# Altium footprint library Packages.PcbLib: 10 footprints
Each footprint in its own frame and in the unit in brackets; x right, y up, seen from the top. Pads: shape width x height; smd on the part's side, far side on the other; paste and mask are expansions set on the pad; w line width, h text height; cw(c..) or ccw(c..) is an arc to the next point about the centre after c.
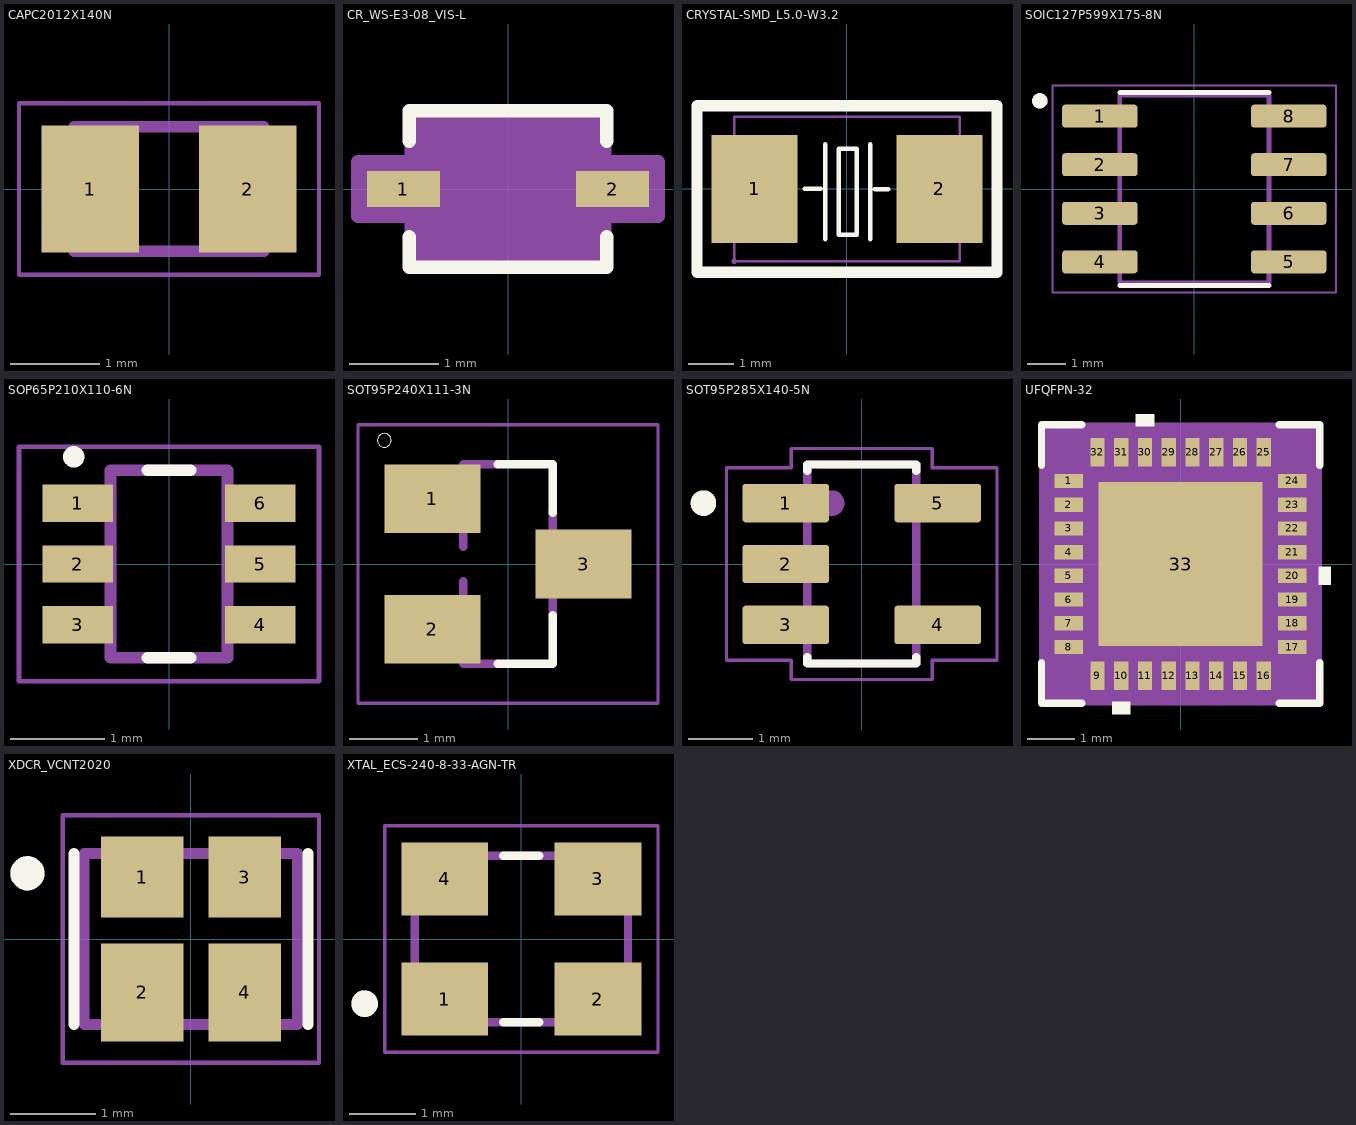
[diagram p0: the footprints below, top view; thin cyan lines are the x and y axes]

## CAPC2012X140N [mm]
pads (2):
  rect 1.1x1.43 smd: 1(-0.888,0) 2(0.888,0)
Mechanical 13:
  lines w0.127: -1.07,-0.7 -1.07,0.7 1.07,0.7 1.07,-0.7 -1.07,-0.7
Mechanical 15:
  lines w0.05: -1.69,-0.965 -1.69,0.965 1.69,0.965 1.69,-0.965 -1.69,-0.965
3D body "step_temp.STEP": height 1.4, standoff 0, extent -1,-0.625 1,0.625

## CR_WS-E3-08_VIS-L [mil]
pads (2):
  rect 32x16 smd paste+0 mask+0: 1(-46,0) 2(46,0)
Top Overlay:
  lines w6: -43.5,-21.1 -43.5,-34.5 43.5,-34.5 43.5,-21.1 ; -43.5,21.1 -43.5,34.5 43.5,34.5 43.5,21.1
  text "." at -70,20 h50
Mechanical 13:
  lines w1: -38.5,-14.75 -23.75,-29.5 ; -38.5,14.75 -23.75,29.5 ; -56,-8 -38.5,-8 -38.5,8 -56,8 -56,-8 ; -38.5,-29.5 -38.5,29.5 38.5,29.5 38.5,-29.5 -38.5,-29.5 ; 38.5,-8 56,-8 56,8 38.5,8 38.5,-8
Mechanical 15:
  region: -42.5,-12 -66,-12 -66,12 -42.5,12 -42.5,33.5 42.5,33.5 42.5,12 66,12 66,-12 42.5,-12 42.5,-33.5 -42.5,-33.5
  lines w6: -66,-12 -42.5,-12 -42.5,-33.5 42.5,-33.5 42.5,-12 66,-12 66,12 42.5,12 42.5,33.5 -42.5,33.5 -42.5,12 -66,12 -66,-12
3D body "CR_WS-E3-08_VIS.step": height 45.12, standoff 0, extent -55.98,-29.49 55.98,29.49

## CRYSTAL-SMD_L5.0-W3.2 [mm]
pads (2):
  rect 1.9x2.4 smd: 1(-2.05,0) 2(2.05,0)
Top Overlay:
  lines w0.1: -0.94,0 -0.584,0 ; -0.483,-1.109 -0.483,0.991 ; 0.517,-1.109 0.517,0.991 ; 0.617,-0.009 0.917,-0.009 ; -0.183,-1.009 0.217,-1.009 0.217,0.89 -0.183,0.89 -0.183,-1.009
  lines w0.254: -3.325,-1.85 -3.325,-0.7 -3.325,0.7 -3.325,1.85 3.325,1.85 3.325,0.7 3.325,-0.7 3.325,-1.85 -3.325,-1.85
Mechanical 15:
  region: 1.3,1 2.4,1 2.4,-1 1.3,-1
  region: -2.4,1 -1.3,1 -1.3,-1 -2.4,-1
  region: -2.44,-1.6 -2.44,-1.625 -2.475,-1.66 -2.525,-1.66 -2.56,-1.625 -2.56,-1.6 -2.56,-1.575 -2.525,-1.54 -2.475,-1.54 -2.44,-1.575
  lines w0.051: -2.5,-1.6 2.5,-1.6 2.5,1.6 -2.5,1.6 -2.5,-1.6
3D body "5032_crystal_oscillator.step": height 0.8, standoff 0, extent -2.5,-1.6 2.5,1.6

## SOIC127P599X175-8N [mm]
pads (8):
  rrect25% 1.97x0.6 smd: 1(-2.47,1.905) 2(-2.47,0.635) 3(-2.47,-0.635) 4(-2.47,-1.905) 5(2.47,-1.905) 6(2.47,-0.635) 7(2.47,0.635) 8(2.47,1.905)
Top Overlay:
  circle w0.2: c-4.04,2.305 r0.1
  lines w0.127: -1.95,-2.525 1.95,-2.525 ; -1.95,2.525 1.95,2.525
Mechanical 13:
  circle w0.2: c-4.04,2.305 r0.1
  lines w0.127: -1.95,-2.452 -1.95,2.452 1.95,2.452 1.95,-2.452 -1.95,-2.452
Mechanical 15:
  lines w0.05: -3.705,-2.702 -3.705,2.702 3.705,2.702 3.705,-2.702 -3.705,-2.702
3D body "step_temp.STEP": height 1.75, standoff 0, extent -3,-2.45 3,2.45

## SOP65P210X110-6N [mm]
pads (6):
  rect 0.75x0.4 smd paste-0.05 mask+0.05: 1(-0.975,0.65) 2(-0.975,0) 3(-0.975,-0.65) 4(0.975,-0.65) 5(0.975,0) 6(0.975,0.65)
Top Overlay:
  circle w0.127: c-1.016,1.143 r0.051
  lines w0.127: -0.23,-1 0.23,-1 ; -0.23,1 0.23,1
Mechanical 13:
  lines w0.127: -0.625,-1 -0.625,1 0.625,1 0.625,-1 -0.625,-1
Mechanical 15:
  lines w0.05: -1.6,-1.25 -1.6,1.25 1.6,1.25 1.6,-1.25 -1.6,-1.25
3D body "step_temp.STEP": height 1.1, standoff 0, extent -1.05,-1 1.05,1

## SOT95P240X111-3N [mm]
pads (3):
  rect 1.4x1 smd: 1(-1.1,0.95) 2(-1.1,-0.95) 3(1.1,0)
Top Overlay:
  circle w0: c-1.8,1.8 r0.1
  lines w0.127: -0.15,-1.45 0.65,-1.45 0.65,-0.75 ; -0.15,1.45 0.65,1.45 0.65,0.75
Mechanical 13:
  region: -0.713,0.711 -1.296,0.711 -1.296,1.17 -0.713,1.17
  region: -0.711,-1.169 -1.296,-1.169 -1.296,-0.711 -0.711,-0.711
  region: 1.296,-0.228 0.711,-0.228 0.711,0.228 1.296,0.228
  lines w0.127: -0.65,-0.25 -0.65,-1.45 -0.15,-1.45 ; -0.65,0.25 -0.65,1.45 -0.15,1.45 ; 0.65,-0.75 0.65,0.75
Mechanical 15:
  lines w0.051: -2.183,-2.023 2.183,-2.023 2.183,2.023 -2.183,2.023 -2.183,-2.023
3D body "step_temp.STEP": height 1.11, standoff 0, extent -1.2,-1.45 1.2,1.45

## SOT95P285X140-5N [mm]
pads (5):
  rrect15% 1.35x0.6 smd: 1(-1.185,0.95) 2(-1.185,0) 3(-1.185,-0.95) 4(1.185,-0.95) 5(1.185,0.95)
Top Overlay:
  circle w0.2: c-2.469,0.95 r0.1
  lines w0.127: -0.85,-1.45 -0.85,-1.55 0.85,-1.55 0.85,-1.45 ; -0.85,1.45 -0.85,1.55 0.85,1.55 0.85,1.45
Mechanical 13:
  circle w0.2: c-0.469,0.95 r0.1
  lines w0.127: -0.85,-1.55 0.85,-1.55 0.85,1.55 -0.85,1.55 -0.85,-1.55
Mechanical 15:
  lines w0.05: -2.11,-1.5 -2.11,1.5 -1.1,1.5 -1.1,1.8 1.1,1.8 1.1,1.5 2.11,1.5 2.11,-1.5 1.1,-1.5 1.1,-1.8 -1.1,-1.8 -1.1,-1.5 -2.11,-1.5
3D body "step_temp.STEP": height 1.4, standoff 0, extent -1.5,-1.4 1.5,1.4

## UFQFPN-32 [mm]
pads (33):
  rect 0.6x0.3 smd paste+0 mask+0: 1(-2.35,1.75) 2(-2.35,1.25) 3(-2.35,0.75) 4(-2.35,0.25) 5(-2.35,-0.25) 6(-2.35,-0.75) 7(-2.35,-1.25) 8(-2.35,-1.75) 17(2.35,-1.75) 18(2.35,-1.25) 19(2.35,-0.75) 20(2.35,-0.25) 21(2.35,0.25) 22(2.35,0.75) 23(2.35,1.25) 24(2.35,1.75)
  rect 0.3x0.6 smd paste+0 mask+0: 9(-1.75,-2.35) 10(-1.25,-2.35) 11(-0.75,-2.35) 12(-0.25,-2.35) 13(0.25,-2.35) 14(0.75,-2.35) 15(1.25,-2.35) 16(1.75,-2.35) 25(1.75,2.35) 26(1.25,2.35) 27(0.75,2.35) 28(0.25,2.35) 29(-0.25,2.35) 30(-0.75,2.35) 31(-1.25,2.35) 32(-1.75,2.35)
  rect 3.454x3.454 smd paste-1.727 mask+0: 33(0,0)
Top Overlay:
  region: -1.06,-2.904 -1.441,-2.904 -1.441,-3.158 -1.06,-3.158
  region: 2.904,-0.059 3.158,-0.059 3.158,-0.44 2.904,-0.44
  region: -0.56,2.904 -0.941,2.904 -0.941,3.158 -0.56,3.158
  lines w0.152: -2.931,-2.078 -2.931,-2.931 -2.078,-2.931 ; -2.931,2.078 -2.931,2.931 -2.078,2.931 ; 2.078,-2.931 2.931,-2.931 2.931,-2.078 ; 2.078,2.931 2.931,2.931 2.931,2.078
  text "." at -3.556,1.651 h1.27
Top Paste:
  region: -0.1,1.627 -1.627,1.627 -1.627,0.1 -0.1,0.1
  region: -0.1,-0.1 -1.627,-0.1 -1.627,-1.627 -0.1,-1.627
  region: 1.627,1.627 0.1,1.627 0.1,0.1 1.627,0.1
  region: 1.627,-0.1 0.1,-0.1 0.1,-1.627 1.627,-1.627
Mechanical 13:
  lines w0.025: -2.55,1.28 -1.28,2.55 ; -2.55,-2.55 2.55,-2.55 2.55,2.55 -2.55,2.55 -2.55,-2.55
  text "*" at -2.114,1.365 h1.27
Mechanical 15:
  region: -2.154,-2.804 -2.804,-2.804 -2.804,-2.154 -2.904,-2.154 -2.904,2.154 -2.804,2.154 -2.804,2.804 -2.154,2.804 -2.154,2.904 2.154,2.904 2.154,2.804 2.804,2.804 2.804,2.154 2.904,2.154 2.904,-2.154 2.804,-2.154 2.804,-2.804 2.154,-2.804 2.154,-2.904 -2.154,-2.904
  lines w0.152: -2.904,-2.154 -2.804,-2.154 -2.804,-2.804 -2.154,-2.804 -2.154,-2.904 2.154,-2.904 2.154,-2.804 2.804,-2.804 2.804,-2.154 2.904,-2.154 2.904,2.154 2.804,2.154 2.804,2.804 2.154,2.804 2.154,2.904 -2.154,2.904 -2.154,2.804 -2.804,2.804 -2.804,2.154 -2.904,2.154 -2.904,-2.154
3D body "UFQFPN-32.step": height 1.4, standoff 0, extent -2.601,-2.601 2.601,2.601

## XDCR_VCNT2020 [mm]
pads (4):
  rect 0.97x0.95 smd: 1(-0.57,0.725)
  rect 0.97x1.15 smd: 2(-0.57,-0.625)
  rect 0.85x0.95 smd: 3(0.63,0.725)
  rect 0.85x1.15 smd: 4(0.63,-0.625)
Top Overlay:
  circle w0.2: c-1.914,0.77 r0.1
  lines w0.127: -1.37,-1 -1.37,1 ; 1.37,-1 1.37,1
Mechanical 13:
  circle w0.2: c-1.914,0.77 r0.1
  lines w0.127: -1.25,-1 1.25,-1 1.25,1 -1.25,1 -1.25,-1
Mechanical 15:
  lines w0.05: -1.5,-1.45 1.5,-1.45 1.5,1.45 -1.5,1.45 -1.5,-1.45
3D body "step_temp.STEP": height 0.8, standoff 0, extent -1.25,-1 1.25,1

## XTAL_ECS-240-8-33-AGN-TR [mm]
pads (4):
  rect 1.3x1.1 smd: 1(-1.15,-0.9) 2(1.15,-0.9) 3(1.15,0.9) 4(-1.15,0.9)
Top Overlay:
  circle w0.2: c-2.35,-0.97 r0.1
  lines w0.127: -0.27,-1.25 0.27,-1.25 ; -0.27,1.25 0.27,1.25
Mechanical 13:
  circle w0.2: c-2.35,-0.97 r0.1
  lines w0.127: -1.6,-1.25 -1.6,1.25 1.6,1.25 1.6,-1.25 -1.6,-1.25
Mechanical 15:
  lines w0.05: -2.05,-1.7 -2.05,1.7 2.05,1.7 2.05,-1.7 -2.05,-1.7
3D body "step_temp.STEP": height 0.8, standoff 0, extent -1.6,-1.25 1.6,1.25